# Altium schematic symbol library SMPS Schlib.SchLib: 70 symbols
Pins are listed as number, name and electrical type; pins without a type are passive.

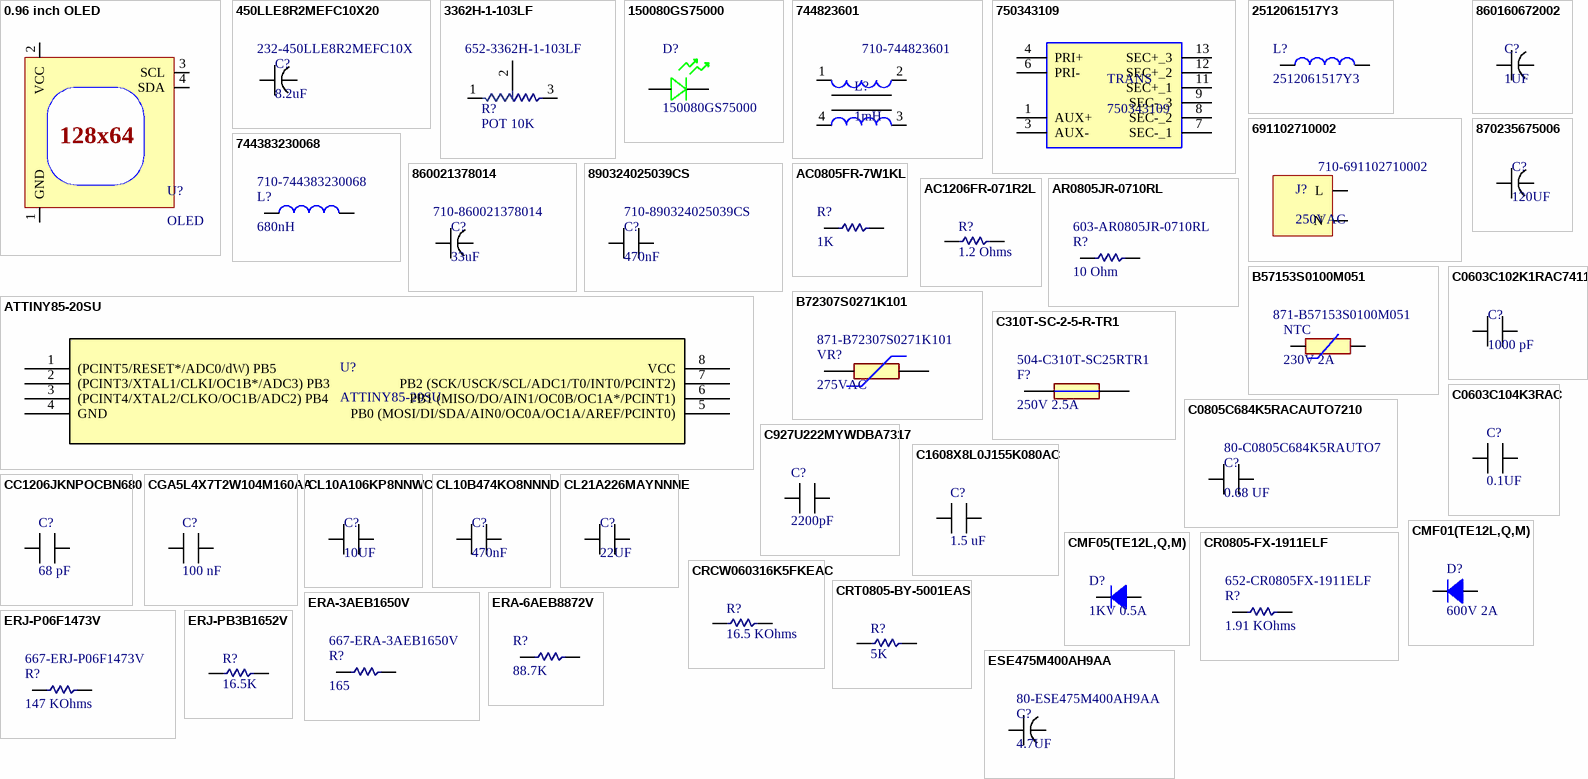
[diagram p0: symbols 0.96 inch OLED to ESE475M400AH9AA]

## 0.96 inch OLED
designator U?, comment OLED
0.96″ OLED 4pin LCD LED Display Module I2C IIC Communicate – White 128×64
footprint OLED
pins: 1 GND, 2 VCC, 3 SCL, 4 SDA
text: 128x64

## 450LLE8R2MEFC10X20
designator C?, comment 8.2uF  Supplier Part Number 1: 232-450LLE8R2MEFC10X
Aluminum Electrolytic Capacitors - Radial Leaded 450V 8.2uF 105C 20k Hour LS=5mm; Supplier 1: Mouser
footprint Alum Radial Cap 5mm
pins: 1, 2

## 3362H-1-103LF
designator R?, comment POT 10K  Supplier Part Number 1: 652-3362H-1-103LF
Trimmer Resistors - Through Hole 1/4"SQ 10KOHMS 10% 0.5WATTS; Supplier 1: Mouser
footprint 3362P_1
pins: 1 CCW, 2 WIPER, 3 CW

## 150080GS75000
designator D?
Standard LEDs - SMD WL-SMCW SMDMono TpVw Waterclr 0805 Green; Supplier 1: Mouser; Supplier Part Number 1: 710-150080GS75000
footprint Res 0805 (Chip Resistor 0805 (2012 Metric) Moisture Resistant Thick Film)
pins: 1, 2

## 744823601
designator L?, comment 1mH  Supplier Part Number 1: 710-744823601
Common Mode Chokes / Filters WE-CMB Choke Type M 1mH 6A 13mOhm; Supplier 1: Mouser
footprint 744823601
pins: 1, 2, 3, 4

## 750343109
designator TRANS
Power Transformers WE-FB SMD Flyback Dialog Semi iW1830; Supplier 1: Mouser; Supplier Part Number 1: 710-750343109
footprint 750343109
pins: 1 AUX+, 3 AUX-, 4 PRI+, 6 PRI-, 7 SEC-_1, 8 SEC-_2, 9 SEC-_3, 11 SEC+_1, 12 SEC+_2, 13 SEC+_3

## 2512061517Y3
designator L?
Ferrite Beads MULTILAYER CHIP BEAD Z=150 OHM@100MHz 25; Supplier 1: Mouser; Supplier Part Number 1: 623-2512061517Y3
footprint IND 1206
pins: 1, 2

## 691102710002
designator J?, comment 250VAC  Supplier Part Number 1: 710-691102710002
Fixed Terminal Blocks WR-TBL 300VAC 15A 2P Straight; Supplier 1: Mouser
footprint 691102710002
pins: 1 L, 2 N

## 744383230068
designator L?, comment 680nH  Supplier Part Number 1: 710-744383230068
Power Inductors - Leaded WE-MAPI 680nH 3.1A DCR=60mOhms AECQ200; Supplier 1: Mouser
footprint IND 1008
pins: 1, 2

## 860021378014
designator C?, comment 33uF  Supplier Part Number 1: 710-860021378014
Aluminum Electrolytic Capacitors - Radial Leaded WCAP-ATG5 33uF 400V 20% Radial; Supplier 1: Mouser
footprint Alum Radial Cap 5mm
pins: 1, 2

## 860160672002
designator C?, comment 1UF
Aluminium Electrolytic Capacitors - Radial Leaded WCAP-ATLL 50V 1uF 20% Radial; Supplier 1: Mouser; Supplier Part Number 1: 710-860160672002
footprint ALUM RADIAL CAP 2mm
pins: 1, 2

## 870235675006
designator C?, comment 120UF
Aluminium Electrolytic Capacitors - Radial Leaded WCAP-PT5H 120uF 35V 20% Radial; Supplier 1: Mouser; Supplier Part Number 1: 710-870235675006
footprint Alum Radial Cap 5mm
pins: 1, 2

## 890324025039CS
designator C?, comment 470nF  Supplier Part Number 1: 710-890324025039CS
Safety Capacitors WCAP-FTX2 20mm Lead 0.47uF 10% 275VAC; Supplier 1: Mouser
footprint 890324025039CS
pins: 1, 2

## AC0805FR-7W1KL
designator R?, comment 1K
Thick Film Resistors - SMD 1 kOhms 250mW 0805 1 % AEC-Q200 Double Power Version; Supplier 1: Mouser; Supplier Part Number 1: 603-AC0805FR-7W1KL
footprint Res 0805 (Chip Resistor 0805 (2012 Metric) Moisture Resistant Thick Film)
pins: 1 A, 2 B

## AC1206FR-071R2L
designator R?, comment 1.2 Ohms
Thick Film Resistors - SMD 1.2Ohms 1/4W 1206 1% AEC-Q200 Standard Power Version; Supplier 1: Mouser; Supplier Part Number 1: 603-AC1206FR-071R2L
footprint RES 1206 (Chip Resistor, 2-Leads, Body 3.20x1.65mm, IPC Medium Density)
pins: 1 A, 2 B

## AR0805JR-0710RL
designator R?, comment 10 Ohm  Supplier Part Number 1: 603-AR0805JR-0710RL
Thick Film Resistors - SMD 10Ohms 1/8W 0805 5% 5% AEC-Q200; Supplier 1: Mouser
footprint Res 0805 (Chip Resistor 0805 (2012 Metric) Moisture Resistant Thick Film)
pins: 1 A, 2 B

## ATTINY85-20SU
designator U?
8-bit Microcontrollers - MCU AVR 8K FLSH 512B EE 512B SRAM ADC 5V; Supplier 1: Mouser; Supplier Part Number 1: 556-ATTINY85-20SU
footprint SOIC 8 ATTINY
pins: 1 (PCINT5/RESET*/ADC0/dW) PB5, 2 (PCINT3/XTAL1/CLKI/OC1B*/ADC3) PB3, 3 (PCINT4/XTAL2/CLKO/OC1B/ADC2) PB4, 4 GND, 5 PB0 (MOSI/DI/SDA/AIN0/OC0A/OC1A/AREF/PCINT0), 6 PB1 (MISO/DO/AIN1/OC0B/OC1A*/PCINT1), 7 PB2 (SCK/USCK/SCL/ADC1/T0/INT0/PCINT2), 8 VCC

## B57153S0100M051
designator NTC, comment 230V 2A  Supplier Part Number 1: 871-B57153S0100M051
Inrush Current Limiters S 153/10 M51; Supplier 1: Mouser
footprint B57153S0100M051
pins: 1, 2

## B72307S0271K101
designator VR?, comment 275VAC  Supplier Part Number 1: 871-B72307S0271K101
Varistors 7mm, 275Vac, 10%, Compact Series; Supplier 1: Mouser
footprint B72307S0271K101
pins: 1, 2

## C310T-SC-2-5-R-TR1
designator F?, comment 250V 2.5A  Supplier Part Number 1: 504-C310T-SC25RTR1
Cartridge Fuses 2.5A 250V high I2t ceramic; Supplier 1: Mouser
footprint C310T-SC-2-5-R-TR1
pins: 1, 2

## C0603C102K1RAC7411
designator C?, comment 1000 pF
Multilayer Ceramic Capacitors MLCC - SMD/SMT 100V 1000pF X7R 0603 10%; Supplier 1: Mouser; Supplier Part Number 1: 80-C0603C102K1RLR
footprint Cap 0603
pins: 1, 2

## C0603C104K3RAC
designator C?, comment 0.1UF
Multilayer Ceramic Capacitors MLCC - SMD/SMT 25V 0.1uF X7R 0603 10%; Supplier 1: Mouser; Supplier Part Number 1: 80-C0603C104K3RAC
footprint Cap 0603
pins: 1, 2

## C0805C684K5RACAUTO7210
designator C?, comment 0.68 UF  Supplier Part Number 1: 80-C0805C684K5RAUTO7
Multilayer Ceramic Capacitors MLCC - SMD/SMT 50V 0.68uF X7R 0805 10% AEC-Q200; Supplier 1: Mouser
footprint Res 0805 (Chip Resistor 0805 (2012 Metric) Moisture Resistant Thick Film)
pins: 1, 2

## C927U222MYWDBA7317
designator C?, comment 2200pF
Safety Capacitors 400/250V 2200pF Y5U 20% LS=7.5mm; Supplier 1: Mouser; Supplier Part Number 1: 80-C927U222MYWDBAP
footprint C927U222MYWDBA7317
pins: 1, 2

## C1608X8L0J155K080AC
designator C?, comment 1.5 uF
Multilayer Ceramic Capacitors MLCC - SMD/SMT 0603 6.3V 1.50uF 10% X8L High Temp; Supplier 1: Mouser; Supplier Part Number 1: 810-C1608X8L0J155K08
footprint Cap 0603
pins: 1, 2

## CC1206JKNPOCBN680
designator C?, comment 68 pF
Multilayer Ceramic Capacitors MLCC - SMD/SMT 1k V 68 pF C0G 1206 5%; Supplier 1: Mouser; Supplier Part Number 1: 603-CC126JKNPOCBN680
footprint Cap 1206 (Chip Resistor, 2-Leads, Body 3.20x1.65mm, IPC Medium Density)
pins: 1, 2

## CGA5L4X7T2W104M160AA
designator C?, comment 100 nF
Multilayer Ceramic Capacitors MLCC - SMD/SMT CGA 1206 450V 0.1uF X7T 20% AEC-Q200; Supplier 1: Mouser; Supplier Part Number 1: 810-CGA5L4X7T2W104MA
footprint Cap 1206 (Chip Resistor, 2-Leads, Body 3.20x1.65mm, IPC Medium Density)
pins: 1, 2

## CL10A106KP8NNWC
designator C?, comment 10UF
Multilayer Ceramic Capacitors MLCC - SMD/SMT X5R, 10uF, +/-10%, 10v, 0603; Supplier 1: Mouser; Supplier Part Number 1: 187-CL10A106KP8NNWC
footprint Cap 0603
pins: 1, 2

## CL10B474KO8NNND
designator C?, comment 470nF
Multilayer Ceramic Capacitors MLCC - SMD/SMT 470nF+/-10% 16V X7R 0603; Supplier 1: Mouser; Supplier Part Number 1: 187-CL10B474KO8NNND
footprint Cap 0603
pins: 1, 2

## CL21A226MAYNNNE
designator C?, comment 22UF
Multilayer Ceramic Capacitors MLCC - SMD/SMT 22uF+/-20% 25V X5R 2 0805; Supplier 1: Mouser; Supplier Part Number 1: 187-CL21A226MAYNNNE
footprint Res 0805 (Chip Resistor 0805 (2012 Metric) Moisture Resistant Thick Film)
pins: 1, 2

## CMF01(TE12L,Q,M)
designator D?, comment 600V 2A
Diodes - General Purpose, Power, Switching 600V 2A M-FLAT; Supplier 1: Mouser; Supplier Part Number 1: 757-CMF01TE12LQM
footprint FLAT_SMT
pins: 1, 2

## CMF05(TE12L,Q,M)
designator D?, comment 1KV 0.5A
Rectifiers Super Fast Diode 1000V 0.5A 100ns; Supplier 1: Mouser; Supplier Part Number 1: 757-CMF05TE12LQM
footprint FLAT_SMT
pins: 1, 2

## CR0805-FX-1911ELF
designator R?, comment 1.91 KOhms  Supplier Part Number 1: 652-CR0805FX-1911ELF
Thick Film Resistors - SMD 1.91K 1%; Supplier 1: Mouser
footprint Res 0805 (Chip Resistor 0805 (2012 Metric) Moisture Resistant Thick Film)
pins: 1 A, 2 B

## CRCW060316K5FKEAC
designator R?, comment 16.5 KOhms
Thick Film Resistors - SMD 1/10W 16.5Kohms 1% Commercial Use; Supplier 1: Mouser; Supplier Part Number 1: 71-CRCW060316K5FKEAC
footprint Res 0603
pins: 1 A, 2 B

## CRT0805-BY-5001EAS
designator R?, comment 5K
Thin Film Resistors - SMD 5K OHM .1% 25PPM 1/8W; Supplier 1: Mouser; Supplier Part Number 1: 652-CRT0805BY5001EAS
footprint Res 0805 (Chip Resistor 0805 (2012 Metric) Moisture Resistant Thick Film)
pins: 1 A, 2 B

## ERA-3AEB1650V
designator R?, comment 165  Supplier Part Number 1: 667-ERA-3AEB1650V
Thin Film Resistors - SMD 0603 165ohm 0.1% 25ppm; Supplier 1: Mouser
footprint Res 0603
pins: 1 A, 2 B

## ERA-6AEB8872V
designator R?, comment 88.7K
Thin Film Resistors - SMD 0805 88.7Kohm 0.1% 25ppm; Supplier 1: Mouser; Supplier Part Number 1: 667-ERA-6AEB8872V
footprint Res 0805 (Chip Resistor 0805 (2012 Metric) Moisture Resistant Thick Film)
pins: 1 A, 2 B

## ERJ-P06F1473V
designator R?, comment 147 KOhms  Supplier Part Number 1: 667-ERJ-P06F1473V
Thick Film Resistors - SMD 0805 147Kohms 0.5W 1% AEC-Q200; Supplier 1: Mouser
footprint Res 0805 (Chip Resistor 0805 (2012 Metric) Moisture Resistant Thick Film)
pins: 1 A, 2 B

## ERJ-PB3B1652V
designator R?, comment 16.5K
Thick Film Resistors - SMD 0603 Anti-Surge Res. 0.1%, 16.5Koh; Supplier 1: Mouser; Supplier Part Number 1: 667-ERJ-PB3B1652V
footprint Res 0603
pins: 1 A, 2 B

## ESE475M400AH9AA
designator C?, comment 4.7UF  Supplier Part Number 1: 80-ESE475M400AH9AA
Aluminum Electrolytic Capacitors - Radial Leaded 400V 4.7uF 20% 1000Hrs; Supplier 1: Mouser
footprint Alum Radial Cap 5mm
pins: 1, 2

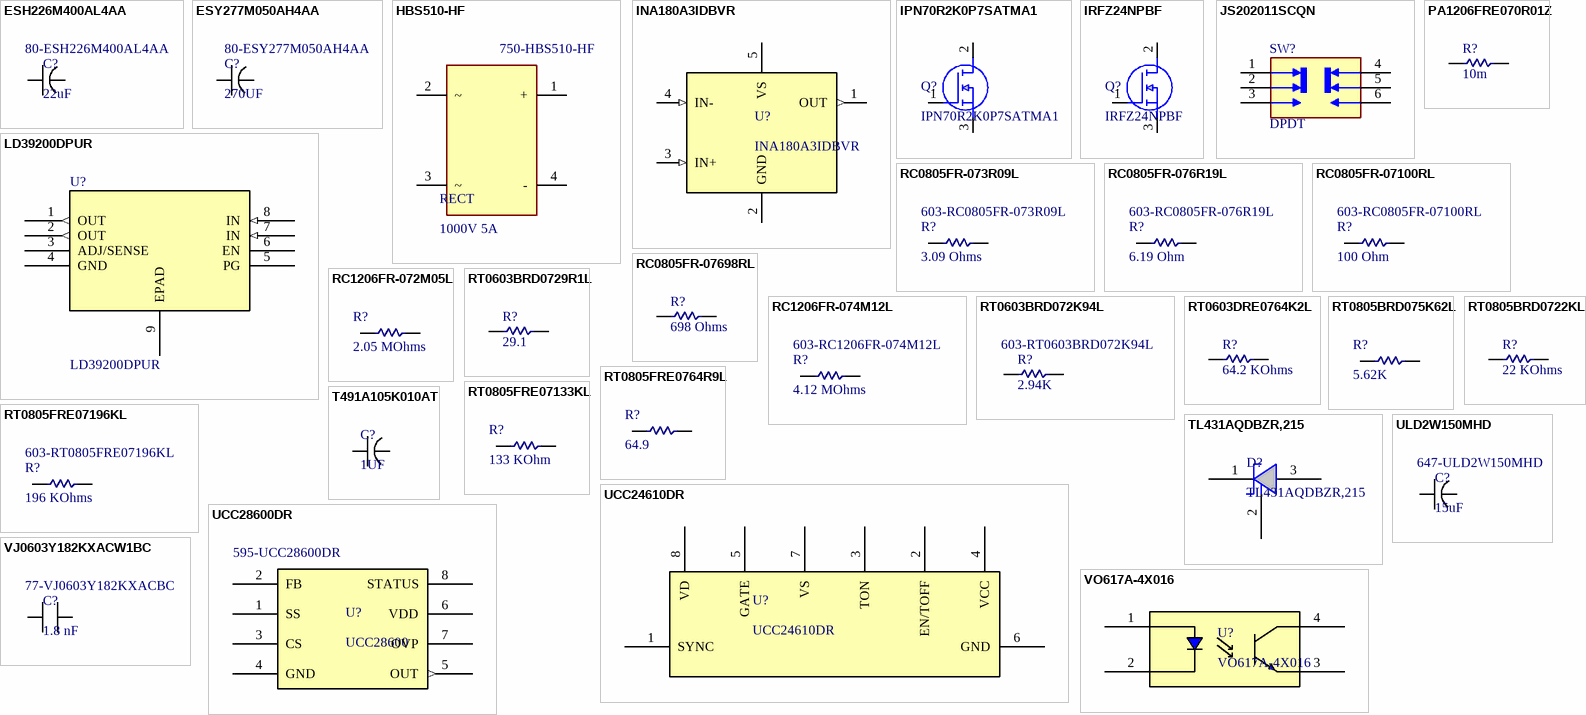
[diagram p1: symbols ESH226M400AL4AA to VO617A-4X016]

## ESH226M400AL4AA
designator C?, comment 22uF  Supplier Part Number 1: 80-ESH226M400AL4AA
Aluminum Electrolytic Capacitors - Radial Leaded 400V 22uF 105C 2k Hour LS=5mm; Supplier 1: Mouser
footprint Alum Radial Cap 5mm
pins: 1, 2

## ESY277M050AH4AA
designator C?, comment 270UF  Supplier Part Number 1: 80-ESY277M050AH4AA
Aluminum Electrolytic Capacitors - Radial Leaded 50V 270uF 105C 4k Hour Radial; Supplier 1: Mouser
footprint Alum Radial Cap 5mm
pins: 1, 2

## HBS510-HF
designator RECT, comment 1000V 5A  Supplier Part Number 1: 750-HBS510-HF
Bridge Rectifiers BRIDGE RECTIFIER 1000V 5A; Supplier 1: Mouser
footprint HBS510-HF
pins: 1 +, 2 ~, 3 ~, 4 -

## INA180A3IDBVR
designator U?
Current Sense Amplifiers 26V, 350kHz current sense amplifier 5-SOT-23 -40 to 125; Supplier 1: Mouser; Supplier Part Number 1: 595-INA180A3IDBVR
footprint SOT-23-5
pins: 1 OUT (out), 2 GND (power), 3 IN+ (in), 4 IN- (in), 5 VS (power)

## IPN70R2K0P7SATMA1
designator Q?
MOSFET CONSUMER 700V 3A 1.64Ohms; Supplier 1: Mouser; Supplier Part Number 1: 726-IPN70R2K0P7SATM1
footprint SOT-223-3
pins: 1 G, 2 D, 3 S

## IRFZ24NPBF
designator Q?
MOSFET MOSFT 55V 17A 70mOhm 13.3nC; Supplier 1: Mouser; Supplier Part Number 1: 942-IRFZ24NPBF
footprint TO-220-3
pins: 1 G, 2 D, 3 S

## JS202011SCQN
designator SW?, comment DPDT
SWITCH SLIDE DPDT 300MA 6V; Supplier 1: Mouser; Supplier Part Number 1: 611-JS202011SCQN
footprint JS2020
pins: 1, 2, 3, 4, 5, 6

## LD39200DPUR
designator U?
LDO Voltage Regulators 2 A high PSRR ultra low drop linear regulator reverse current protection; Supplier 1: Mouser; Supplier Part Number 1: 511-LD39200DPUR
footprint DFN-8
pins: 1 OUT (out), 2 OUT (out), 3 ADJ/SENSE, 4 GND (power), 5 PG, 6 EN, 7 IN (in), 8 IN (in), 9 EPAD

## PA1206FRE070R01Z
designator R?, comment 10m
Current Sense Resistors - SMD 10mOhms 1/4W 50PPM/C 1 % 1206 AEC-Q200; Supplier 1: Mouser; Supplier Part Number 1: 603-1206FRE070R01Z
footprint Cap 1206 (Chip Resistor, 2-Leads, Body 3.20x1.65mm, IPC Medium Density)
pins: 1 A, 2 B

## RC0805FR-073R09L
designator R?, comment 3.09 Ohms  Supplier Part Number 1: 603-RC0805FR-073R09L
Thick Film Resistors - SMD 3.09Ohms 1/8W 0805 1%; Supplier 1: Mouser
footprint Res 0805 (Chip Resistor 0805 (2012 Metric) Moisture Resistant Thick Film)
pins: 1 A, 2 B

## RC0805FR-076R19L
designator R?, comment 6.19 Ohm  Supplier Part Number 1: 603-RC0805FR-076R19L
Thick Film Resistors - SMD 6.19 Ohms 125 mW 0805 1%; Supplier 1: Mouser
footprint Res 0805 (Chip Resistor 0805 (2012 Metric) Moisture Resistant Thick Film)
pins: 1 A, 2 B

## RC0805FR-07100RL
designator R?, comment 100 Ohm  Supplier Part Number 1: 603-RC0805FR-07100RL
Thick Film Resistors - SMD 100 Ohms 125 mW 0805 1%; Supplier 1: Mouser
footprint Res 0805 (Chip Resistor 0805 (2012 Metric) Moisture Resistant Thick Film)
pins: 1 A, 2 B

## RC0805FR-07698RL
designator R?, comment 698 Ohms
Thick Film Resistors - SMD 698 Ohms 125 mW 0805 1%; Supplier 1: Mouser; Supplier Part Number 1: 603-RC0805FR-07698RL
footprint Res 0805 (Chip Resistor 0805 (2012 Metric) Moisture Resistant Thick Film)
pins: 1 A, 2 B

## RC1206FR-072M05L
designator R?, comment 2.05 MOhms
Thick Film Resistors - SMD 2.05 MOhms 250 mW 1206 1%; Supplier 1: Mouser; Supplier Part Number 1: 603-RC1206FR-072M05L
footprint RES 1206 (Chip Resistor, 2-Leads, Body 3.20x1.65mm, IPC Medium Density)
pins: 1 A, 2 B

## RC1206FR-074M12L
designator R?, comment 4.12 MOhms  Supplier Part Number 1: 603-RC1206FR-074M12L
Thick Film Resistors - SMD 4.12mOhms 1/4W 1206 1%; Supplier 1: Mouser
footprint RES 1206 (Chip Resistor, 2-Leads, Body 3.20x1.65mm, IPC Medium Density)
pins: 1 A, 2 B

## RT0603BRD072K94L
designator R?, comment 2.94K  Supplier Part Number 1: 603-RT0603BRD072K94L
Thin Film Resistors - SMD 0603 2.94Kohm 0.1% 25ppm; Supplier 1: Mouser
footprint Res 0603
pins: 1 A, 2 B

## RT0603BRD0729R1L
designator R?, comment 29.1
Thin Film Resistors - SMD 1/10W 29.1 Ohms 0.1%; Supplier 1: Mouser; Supplier Part Number 1: 603-RT0603BRD0729R1L
footprint Res 0603
pins: 1 A, 2 B

## RT0603DRE0764K2L
designator R?, comment 64.2 KOhms
Thin Film Resistors - SMD 1/10W 64.2K Ohms .5%; Supplier 1: Mouser; Supplier Part Number 1: 603-RT0603DRE0764K2L
footprint Res 0603
pins: 1 A, 2 B

## RT0805BRD075K62L
designator R?, comment 5.62K
Thin Film Resistors - SMD 1/8W 5.62K ohm .1% 25ppm; Supplier 1: Mouser; Supplier Part Number 1: 603-RT0805BRD075K62L
footprint Res 0805 (Chip Resistor 0805 (2012 Metric) Moisture Resistant Thick Film)
pins: 1 A, 2 B

## RT0805BRD0722KL
designator R?, comment 22 KOhms
Thin Film Resistors - SMD 1/8W 22K ohm .1% 25ppm; Supplier 1: Mouser; Supplier Part Number 1: 603-RT0805BRD0722KL
footprint Res 0805 (Chip Resistor 0805 (2012 Metric) Moisture Resistant Thick Film)
pins: 1 A, 2 B

## RT0805FRE0764R9L
designator R?, comment 64.9
Thin Film Resistors - SMD 1/8W 64.9 ohm 1% 50ppm; Supplier 1: Mouser; Supplier Part Number 1: 603-RT0805FRE0764R9L
footprint Res 0805 (Chip Resistor 0805 (2012 Metric) Moisture Resistant Thick Film)
pins: 1 A, 2 B

## RT0805FRE07133KL
designator R?, comment 133 KOhm
Thin Film Resistors - SMD 1/8W 133K ohm 1% 50ppm; Supplier 1: Mouser; Supplier Part Number 1: 603-RT0805FRE07133KL
footprint Res 0805 (Chip Resistor 0805 (2012 Metric) Moisture Resistant Thick Film)
pins: 1 A, 2 B

## RT0805FRE07196KL
designator R?, comment 196 KOhms  Supplier Part Number 1: 603-RT0805FRE07196KL
Thin Film Resistors - SMD 1/8W 196K ohm 1% 50ppm; Supplier 1: Mouser
footprint Res 0805 (Chip Resistor 0805 (2012 Metric) Moisture Resistant Thick Film)
pins: 1 A, 2 B

## T491A105K010AT
designator C?, comment 1UF
Tantalum Capacitors - Solid SMD 10v 1uF 1206 10% ESR=10Ohms; Supplier 1: Mouser; Supplier Part Number 1: 80-T491A105K010AT
footprint CAP TANTALUM 1206
pins: 1, 2

## TL431AQDBZR,215
designator D?
Shunt Voltage Reference IC Adjustable 2.495V 36 VV ±1% 100 mA TO-236AB; Supplier 1: Mouser; Supplier Part Number 1: 771-TL431AQDBZR215
footprint SOT23(TO-236AB)_NEX
pins: 1, 2, 3

## UCC24610DR
designator U?
Gate Drivers Secondary Side Sync Rectifier Controller; Supplier 1: Mouser; Supplier Part Number 1: 595-UCC24610DR
footprint SOIC-8
pins: 1 SYNC, 2 EN/TOFF, 3 TON, 4 VCC, 5 GATE, 6 GND, 7 VS, 8 VD

## UCC28600DR
designator U?, comment UCC28600  Supplier Part Number 1: 595-UCC28600DR
AC/DC Converters Quasi Res Flyback Green Mode Cntrlr; Supplier 1: Mouser
footprint UCC28600
pins: 1 SS, 2 FB, 3 CS, 4 GND (power), 5 OUT (out), 6 VDD (power), 7 OVP, 8 STATUS

## ULD2W150MHD
designator C?, comment 15uF  Supplier Part Number 1: 647-ULD2W150MHD
Aluminum Electrolytic Capacitors - Radial Leaded 15uF 450 Volts 20%; Supplier 1: Mouser
footprint Alum Radial Cap 5mm
pins: 1, 2

## VJ0603Y182KXACW1BC
designator C?, comment 1.8 nF  Supplier Part Number 1: 77-VJ0603Y182KXACBC
Multilayer Ceramic Capacitors MLCC - SMD/SMT 0603 1800pF 50volts X7R 10%; Supplier 1: Mouser
footprint Cap 0603
pins: 1, 2

## VO617A-4X016
designator U?
Transistor Output Optocouplers RECOMMENDED ALT 782-SFH617A-4X016; Supplier 1: Mouser; Supplier Part Number 1: 78-VO617A-4X016
footprint VO617A-4X016
pins: 1 A, 2 C, 3 E, 4 C